# EAGLE library part SYSMOBTS_PROD (library laforge)
SysmoBTS Production connector (2x30pin)
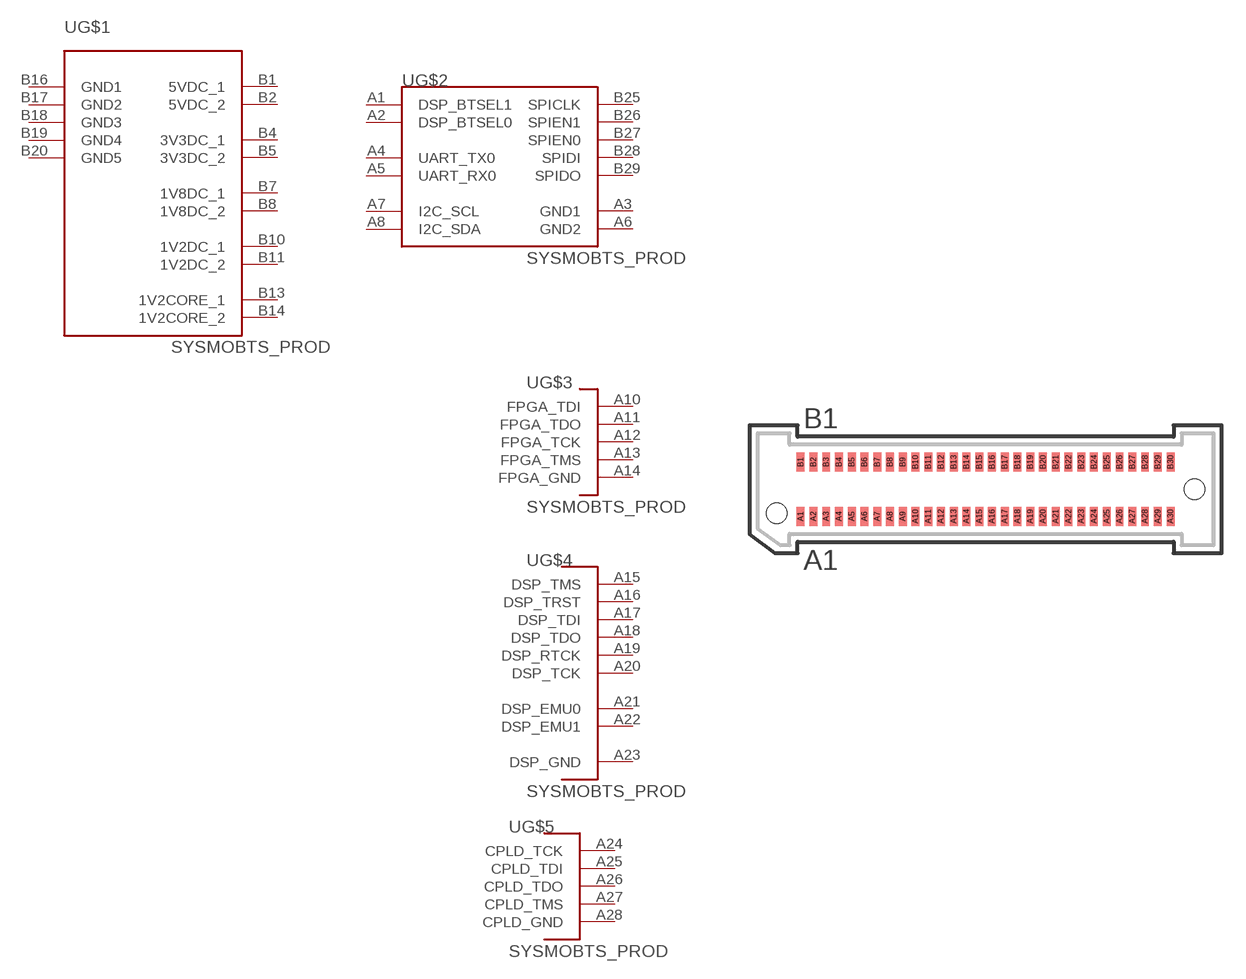
[diagram p11: symbol with the pads of HSEC8-130-01-X-DV-A; footprint HSEC8-130-01-X-DV-A]

Designator prefix -; gates G$1=SYSMOBTS_PROD_PWR G$2=SYSMOBTS_PROD_SPI G$3=SYSMOBTS_PROD_FPGA_JTAG G$4=SYSMOBTS_PROD_DSP_JTAG G$5=SYSMOBTS_CPLD_JTAG

## SYSMOBTS_PROD  [HSEC8-130-01-X-DV-A]
A1  G$2:DSP_BTSEL1  in
A2  G$2:DSP_BTSEL0  in
A3  G$2:GND1  pas
A4  G$2:UART_TX0  out
A5  G$2:UART_RX0  in
A6  G$2:GND2  pas
A7  G$2:I2C_SCL
A8  G$2:I2C_SDA
A10  G$3:FPGA_TDI  in
A11  G$3:FPGA_TDO  out
A12  G$3:FPGA_TCK  in
A13  G$3:FPGA_TMS  in
A14  G$3:FPGA_GND  pas
A15  G$4:DSP_TMS  in
A16  G$4:DSP_TRST  in
A17  G$4:DSP_TDI  in
A18  G$4:DSP_TDO  out
A19  G$4:DSP_RTCK  out
A20  G$4:DSP_TCK  in
A21  G$4:DSP_EMU0  sup
A22  G$4:DSP_EMU1  sup
A23  G$4:DSP_GND  sup
A24  G$5:CPLD_TCK  sup
A25  G$5:CPLD_TDI  sup
A26  G$5:CPLD_TDO  sup
A27  G$5:CPLD_TMS  sup
A28  G$5:CPLD_GND  sup
B1  G$1:5VDC_1  sup
B2  G$1:5VDC_2  sup
B4  G$1:3V3DC_1  sup
B5  G$1:3V3DC_2  sup
B7  G$1:1V8DC_1  sup
B8  G$1:1V8DC_2  sup
B10  G$1:1V2DC_1  sup
B11  G$1:1V2DC_2  sup
B13  G$1:1V2CORE_1  sup
B14  G$1:1V2CORE_2  sup
B16  G$1:GND1  sup
B17  G$1:GND2  sup
B18  G$1:GND3  sup
B19  G$1:GND4  sup
B20  G$1:GND5  sup
B25  G$2:SPICLK  out
B26  G$2:SPIEN1  out
B27  G$2:SPIEN0  out
B28  G$2:SPIDI  in
B29  G$2:SPIDO  out

## Footprint HSEC8-130-01-X-DV-A (pad centres in mm)
0.8MM PITCH HIGH SPEED ASSEMBLY, 60PINS
smd 0.5 x 1.2: A1 -11.6,-1.7; A2 -10.8,-1.7; A3 -10,-1.7; A4 -9.2,-1.7; A5 -8.4,-1.7; A6 -7.6,-1.7; A7 -6.8,-1.7; A8 -6,-1.7; A9 -5.2,-1.7; A10 -4.4,-1.7; A11 -3.6,-1.7; A12 -2.8,-1.7; A13 -2,-1.7; A14 -1.2,-1.7; A15 -0.4,-1.7; A16 0.4,-1.7; A17 1.2,-1.7; A18 2,-1.7; A19 2.8,-1.7; A20 3.6,-1.7; A21 4.4,-1.7; A22 5.2,-1.7; A23 6,-1.7; A24 6.8,-1.7; A25 7.6,-1.7; A26 8.4,-1.7; A27 9.2,-1.7; A28 10,-1.7; A29 10.8,-1.7; A30 11.6,-1.7; B1 -11.6,1.7; B2 -10.8,1.7; B3 -10,1.7; B4 -9.2,1.7; B5 -8.4,1.7; B6 -7.6,1.7; B7 -6.8,1.7; B8 -6,1.7; B9 -5.2,1.7; B10 -4.4,1.7; B11 -3.6,1.7; B12 -2.8,1.7; B13 -2,1.7; B14 -1.2,1.7; B15 -0.4,1.7; B16 0.4,1.7; B17 1.2,1.7; B18 2,1.7; B19 2.8,1.7; B20 3.6,1.7; B21 4.4,1.7; B22 5.2,1.7; B23 6,1.7; B24 6.8,1.7; B25 7.6,1.7; B26 8.4,1.7; B27 9.2,1.7; B28 10,1.7; B29 10.8,1.7; B30 11.6,1.7
hole 1.27 at -13.1,-1.5
hole 1.27 at 13.1,0